# EAGLE library part ADT7320 (library WavefrontLBR)
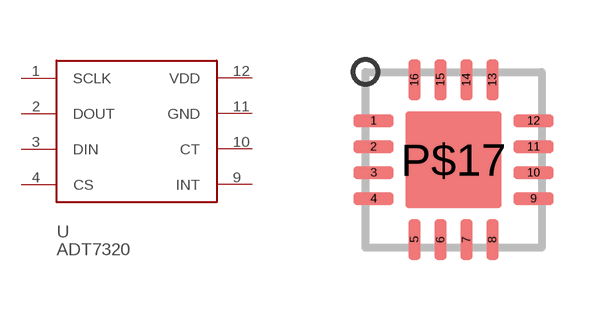
[diagram p0: symbol with the pads of 16LFCSP4X4; footprint 16LFCSP4X4]

Designator prefix -

## ADT7320  [16LFCSP4X4]
1  SCLK
2  DOUT
3  DIN
4  CS
9  INT
10  CT
11  GND
12  VDD

## Footprint 16LFCSP4X4 (pad centres in mm)
smd 1 x 0.3: 1 -2,0.975; 2 -2,0.325; 3 -2,-0.325; 4 -2,-0.975; 9 2,-0.975; 10 2,-0.325; 11 2,0.325; 12 2,0.975
smd 0.3 x 1: 5 -0.975,-2; 6 -0.325,-2; 7 0.325,-2; 8 0.975,-2; 13 0.975,2; 14 0.325,2; 15 -0.325,2; 16 -0.975,2
smd 2.4 x 2.4: P$17 0,0